# Altium footprint library B2B-EH-A (LF)(SN).PcbLib: 1 footprints
Each footprint in its own frame and in the unit in brackets; x right, y up, seen from the top. Pads: shape width x height; smd on the part's side, far side on the other; paste and mask are expansions set on the pad; w line width, h text height; cw(c..) or ccw(c..) is an arc to the next point about the centre after c.
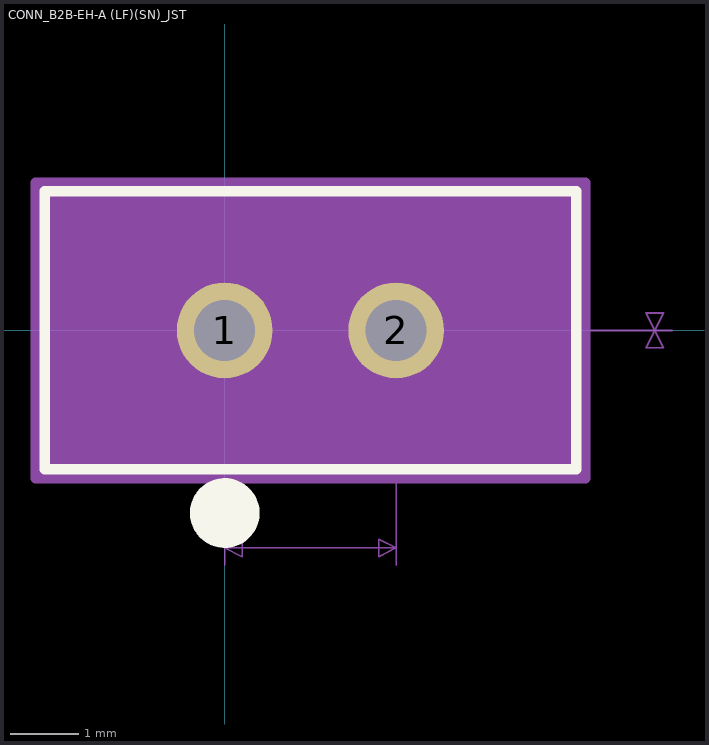
[diagram p0: the footprint, top view; thin cyan lines are the x and y axes]

## CONN_B2B-EH-A (LF)(SN)_JST [mil]
pads (2):
  round 55 hole 35 mask+0: 1(0,0) 2(98.43,0)
Top Overlay:
  circle w20: c0,-104.8 r10
  lines w6: -103.43,-79.8 201.85,-79.8 201.85,79.8 -103.43,79.8 -103.43,-79.8
Mechanical 5:
  region: 204.35,-82.3 -105.93,-82.3 -105.93,82.3 204.35,82.3
Mechanical 7:
  lines w1: 0,-134.8 0,-37.5 ; 48.43,-124.8 98.43,-124.8 ; 50,-124.8 0,-124.8 ; 98.43,-134.8 98.43,-37.5 ; 0,-124.8 10,-129.8 10,-119.8 0,-124.8 ; 98.43,-124.8 88.43,-129.8 88.43,-119.8 98.43,-124.8 ; 246.85,0 246.85,0 ; 246.85,0 241.85,-10 251.85,-10 246.85,0 ; 246.85,0 241.85,10 251.85,10 246.85,0 ; 135.93,0 256.85,0 135.93,0
  text "Default Padstyle: EX55Y55D35P" at -313.29,-274.8 h50
  text "Alt 1 Padstyle: OX60Y90D30P" at -288.29,-474.8 h50
  text "Alt 2 Padstyle: OX90Y60D30P" at -288.29,-574.8 h50
  text "9.842519E-02in/2.5mm (2 @ 9.842519E-02in/3mm)" at -232.04,-149.8 h25
Mechanical 13:
  circle w0: c0,-59.8 r10
  lines w1: -98.43,-74.8 196.85,-74.8 196.85,74.8 -98.43,74.8 -98.43,-74.8
Mechanical 15:
  region: 206.85,84.8 -108.43,84.8 -108.43,-84.8 206.85,-84.8
  lines w6: -108.43,-84.8 -108.43,84.8 206.85,84.8 206.85,-84.8 -108.43,-84.8
3D body: height 10, standoff 0, extent 0,0 10,10